# EAGLE library part B12B-PH-* (library jst-pa)
Wire-to-Board 2.0mm pitch top mount connector Source: http://www.jst-mfg.com/product/pdf/jpn/PH.pdf http://www.jst-mfg.com/product/detail.php?series=199
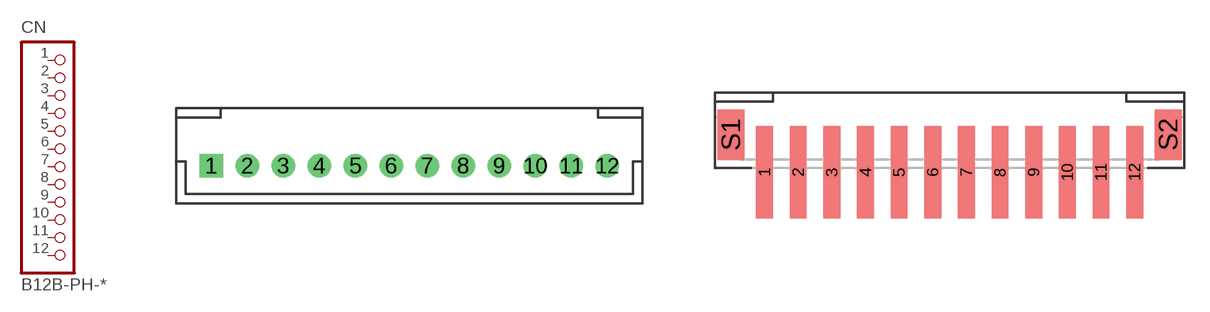
[diagram p6: symbol with the pads of B12B-PH-K-S; footprints B12B-PH-K-S, B12B-PH-SM4-TB]

Designator prefix CN

## B12B-PH-K-S  [B12B-PH-K-S]
1  1  pas
2  2  pas
3  3  pas
4  4  pas
5  5  pas
6  6  pas
7  7  pas
8  8  pas
9  9  pas
10  10  pas
11  11  pas
12  12  pas

## B12B-PH-SM4-TB  [B12B-PH-SM4-TB]
Pads as for B12B-PH-K-S

## Footprint B12B-PH-K-S (pad centres in mm)
drill 0.8 square: 1 -11,0
drill 0.8: 2 -9,0; 3 -7,0; 4 -5,0; 5 -3,0; 6 -1,0; 7 1,0; 8 3,0; 9 5,0; 10 7,0; 11 9,0; 12 11,0

## Footprint B12B-PH-SM4-TB (pad centres in mm)
smd 1 x 5.5: 1 -11,-3.05; 2 -9,-3.05; 3 -7,-3.05; 4 -5,-3.05; 5 -3,-3.05; 6 -1,-3.05; 7 1,-3.05; 8 3,-3.05; 9 5,-3.05; 10 7,-3.05; 11 9,-3.05; 12 11,-3.05
smd 1.6 x 3: S1 -13,-0.8; S2 13,-0.8